# EAGLE library part TXB0106 (library custom)
6 Bit Non-inverting Voltage Level Translator
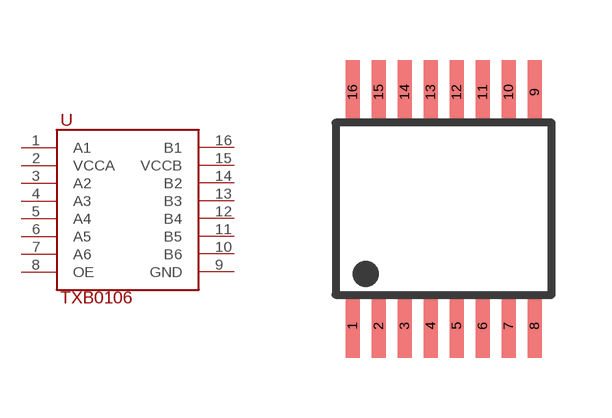
[diagram p1: symbol with the pads of TSSOP16; footprint TSSOP16]

Designator prefix -

## TXB0106TSSOP16  [TSSOP16]
1  A1
2  VCCA
3  A2
4  A3
5  A4
6  A5
7  A6
8  OE
9  GND
10  B6
11  B5
12  B4
13  B3
14  B2
15  VCCB
16  B1

## Footprint TSSOP16 (pad centres in mm)
PW (R-PDSO-G8) Source: http://focus.ti.com/lit/ds/symlink/ads1271.pdf
smd 0.35 x 1.6: 1 -2.275,-2.925; 2 -1.625,-2.925; 3 -0.975,-2.925; 4 -0.325,-2.925; 5 0.325,-2.925; 6 0.975,-2.925; 7 1.625,-2.925; 8 2.275,-2.925; 9 2.275,2.925; 10 1.625,2.925; 11 0.975,2.925; 12 0.325,2.925; 13 -0.325,2.925; 14 -0.975,2.925; 15 -1.625,2.925; 16 -2.275,2.925